# Altium footprint library MotorDriver.PcbLib: 5 footprints
Each footprint in its own frame and in the unit in brackets; x right, y up, seen from the top. Pads: shape width x height; smd on the part's side, far side on the other; paste and mask are expansions set on the pad; w line width, h text height; cw(c..) or ccw(c..) is an arc to the next point about the centre after c.
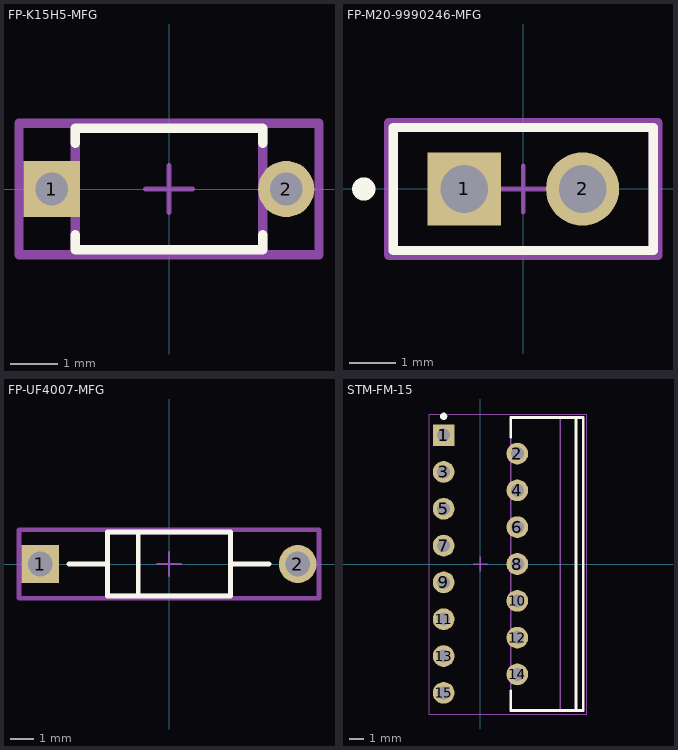
[diagram p0: the footprints below, top view; thin cyan lines are the x and y axes]

## FP-22-29-2031-MFG [mm]

## FP-K15H5-MFG [mm]
pads (2):
  rect 1.2x1.2 hole 0.7 paste-2539.97 mask+0: 1(-2.5,0)
  round 1.2 hole 0.7 paste-2539.97 mask+0: 2(2.5,0)
Top Overlay:
  lines w0.2: -2,-0.975 -2,-1.3 2,-1.3 2,-0.975 ; -2,0.975 -2,1.3 2,1.3 2,0.975
Top Assembly:
  lines w0.2: -3.2,-1.4 -3.2,1.4 3.2,1.4 3.2,-1.4 -3.2,-1.4
  text ".Designator" at 0,0.188 h1
Top 3D Body:
  lines w0.2: -2,-1.3 -2,1.3 2,1.3 2,-1.3 -2,-1.3
Top Courtyard:
  lines w0.2: -3.2,-1.4 -3.2,1.4 3.2,1.4 3.2,-1.4 -3.2,-1.4
Top Component Center:
  lines w0.1: -0.5,0 0.5,0 ; 0,-0.5 0,0.5
3D body "Cap_Vishay_K104K15X7RF53H5_eec.STEP": height 0.25, standoff 0, extent -3.2,-1.4 3.2,1.4

## FP-M20-9990246-MFG [mm]
pads (2):
  rect 1.57x1.57 hole 1.02 paste-2539.97 mask+0: 1(-1.27,0)
  round 1.57 hole 1.02 paste-2539.97 mask+0: 2(1.27,0)
Top Overlay:
  circle w0.25: c-3.425,0 r0.125
  lines w0.2: -2.79,-1.32 2.79,-1.32 2.79,1.32 -2.79,1.32 -2.79,-1.32
Top Assembly:
  lines w0.2: -2.89,-1.42 2.89,-1.42 2.89,1.42 -2.89,1.42 -2.89,-1.42
  text ".Designator" at 0,0.188 h1
Top 3D Body:
  lines w0.2: -2.79,-1.32 2.79,-1.32 2.79,1.32 -2.79,1.32 -2.79,-1.32
Top Courtyard:
  lines w0.2: -2.89,-1.42 2.89,-1.42 2.89,1.42 -2.89,1.42 -2.89,-1.42
Top Component Center:
  lines w0.1: -0.5,0 0.5,0 ; 0,-0.5 0,0.5
3D body "Conn_Harwin_M20-9990246_eec.STEP": height 0.25, standoff 0, extent -2.89,-1.42 2.89,1.42

## FP-UF4007-MFG [mm]
pads (2):
  rect 1.6x1.6 hole 1.05 paste-2539.97 mask+0: 1(-5.438,0)
  round 1.6 hole 1.05 paste-2539.97 mask+0: 2(5.438,0)
Top Overlay:
  lines w0.2: -4.238,0 -2.6,0 ; -1.3,-1.28 -1.3,1.28 ; 2.6,0 4.238,0 ; -2.6,-1.35 2.6,-1.35 2.6,1.35 -2.6,1.35 -2.6,-1.35
Top Assembly:
  lines w0.2: -6.338,-1.45 6.338,-1.45 6.338,1.45 -6.338,1.45 -6.338,-1.45
  text ".Designator" at 0,0.188 h1
Top 3D Body:
  lines w0.2: -2.6,-1.35 2.6,-1.35 2.6,1.35 -2.6,1.35 -2.6,-1.35
Top Courtyard:
  lines w0.2: -6.338,-1.45 6.338,-1.45 6.338,1.45 -6.338,1.45 -6.338,-1.45
Top Component Center:
  lines w0.1: -0.5,0 0.5,0 ; 0,-0.5 0,0.5
3D body "Diode_Vishay_UF4007-E3-54_eec.STEP": height 0.25, standoff 0, extent -6.338,-1.45 6.338,1.45

## STM-FM-15 [mm] "FM, 15-Leads, Body 20.2x5mm, Pitch 1.27mm"
height 21
pads (15):
  rect 1.5x1.5 hole 0.9: 1(-2.54,8.89)
  round 1.5 hole 0.9: 2(2.54,7.62) 3(-2.54,6.35) 4(2.54,5.08) 5(-2.54,3.81) 6(2.54,2.54) 7(-2.54,1.27) 8(2.54,0) 9(-2.54,-1.27) 10(2.54,-2.54) 11(-2.54,-3.81) 12(2.54,-5.08) 13(-2.54,-6.35) 14(2.54,-7.62) 15(-2.54,-8.89)
Top Overlay:
  circle w0.25: c-2.54,10.19 r0.125
  lines w0.2: 2.09,-8.77 2.09,-10.1 7.09,-10.1 7.09,10.1 2.09,10.1 2.09,8.77 ; 6.59,-10.1 6.59,10.1
Top 3D Body:
  lines w0.1: 5.49,-10.1 5.49,10.1 ; 2.09,-10.1 2.09,10.1 7.09,10.1 7.09,-10.1 2.09,-10.1
Top Courtyard:
  lines w0.05: -3.54,-10.35 -3.54,10.35 7.34,10.35 7.34,-10.35 -3.54,-10.35
  lines w0.1: -0.5,0 0.5,0 ; 0,-0.5 0,0.5
3D body: height 1.14, standoff 0, extent -2.8,8.39 -2.28,9.39
3D body: height 1.66, standoff 1.14, extent -2.8,8.39 4.85,9.39
3D body: height 2.79, standoff 1.66, extent 4.33,8.39 4.85,9.39
3D body: height 0, standoff -1.6, extent -2.8,8.535 -2.28,9.245
3D body: height 1.14, standoff 0, extent 2.28,7.12 2.8,8.12
3D body: height 1.66, standoff 1.14, extent 2.28,7.12 4.85,8.12
3D body: height 2.79, standoff 1.66, extent 4.33,7.12 4.85,8.12
3D body: height 0, standoff -1.6, extent 2.28,7.265 2.8,7.975
3D body: height 1.14, standoff 0, extent -2.8,5.85 -2.28,6.85
3D body: height 1.66, standoff 1.14, extent -2.8,5.85 4.85,6.85
3D body: height 2.79, standoff 1.66, extent 4.33,5.85 4.85,6.85
3D body: height 0, standoff -1.6, extent -2.8,5.995 -2.28,6.705
3D body: height 1.14, standoff 0, extent 2.28,4.58 2.8,5.58
3D body: height 1.66, standoff 1.14, extent 2.28,4.58 4.85,5.58
3D body: height 2.79, standoff 1.66, extent 4.33,4.58 4.85,5.58
3D body: height 0, standoff -1.6, extent 2.28,4.725 2.8,5.435
3D body: height 1.14, standoff 0, extent -2.8,3.31 -2.28,4.31
3D body: height 1.66, standoff 1.14, extent -2.8,3.31 4.85,4.31
3D body: height 2.79, standoff 1.66, extent 4.33,3.31 4.85,4.31
3D body: height 0, standoff -1.6, extent -2.8,3.455 -2.28,4.165
3D body: height 1.14, standoff 0, extent 2.28,2.04 2.8,3.04
3D body: height 1.66, standoff 1.14, extent 2.28,2.04 4.85,3.04
3D body: height 2.79, standoff 1.66, extent 4.33,2.04 4.85,3.04
3D body: height 0, standoff -1.6, extent 2.28,2.185 2.8,2.895
3D body: height 1.14, standoff 0, extent -2.8,0.77 -2.28,1.77
3D body: height 1.66, standoff 1.14, extent -2.8,0.77 4.85,1.77
3D body: height 2.79, standoff 1.66, extent 4.33,0.77 4.85,1.77
3D body: height 0, standoff -1.6, extent -2.8,0.915 -2.28,1.625
3D body: height 1.14, standoff 0, extent 2.28,-0.5 2.8,0.5
3D body: height 1.66, standoff 1.14, extent 2.28,-0.5 4.85,0.5
3D body: height 2.79, standoff 1.66, extent 4.33,-0.5 4.85,0.5
3D body: height 0, standoff -1.6, extent 2.28,-0.355 2.8,0.355
3D body: height 1.14, standoff 0, extent -2.8,-1.77 -2.28,-0.77
3D body: height 1.66, standoff 1.14, extent -2.8,-1.77 4.85,-0.77
3D body: height 2.79, standoff 1.66, extent 4.33,-1.77 4.85,-0.77
3D body: height 0, standoff -1.6, extent -2.8,-1.625 -2.28,-0.915
3D body: height 1.14, standoff 0, extent 2.28,-3.04 2.8,-2.04
3D body: height 1.66, standoff 1.14, extent 2.28,-3.04 4.85,-2.04
3D body: height 2.79, standoff 1.66, extent 4.33,-3.04 4.85,-2.04
3D body: height 0, standoff -1.6, extent 2.28,-2.895 2.8,-2.185
3D body: height 1.14, standoff 0, extent -2.8,-4.31 -2.28,-3.31
3D body: height 1.66, standoff 1.14, extent -2.8,-4.31 4.85,-3.31
3D body: height 2.79, standoff 1.66, extent 4.33,-4.31 4.85,-3.31
3D body: height 0, standoff -1.6, extent -2.8,-4.165 -2.28,-3.455
3D body: height 1.14, standoff 0, extent 2.28,-5.58 2.8,-4.58
3D body: height 1.66, standoff 1.14, extent 2.28,-5.58 4.85,-4.58
3D body: height 2.79, standoff 1.66, extent 4.33,-5.58 4.85,-4.58
3D body: height 0, standoff -1.6, extent 2.28,-5.435 2.8,-4.725
3D body: height 1.14, standoff 0, extent -2.8,-6.85 -2.28,-5.85
3D body: height 1.66, standoff 1.14, extent -2.8,-6.85 4.85,-5.85
3D body: height 2.79, standoff 1.66, extent 4.33,-6.85 4.85,-5.85
3D body: height 0, standoff -1.6, extent -2.8,-6.705 -2.28,-5.995
3D body: height 1.14, standoff 0, extent 2.28,-8.12 2.8,-7.12
3D body: height 1.66, standoff 1.14, extent 2.28,-8.12 4.85,-7.12
3D body: height 2.79, standoff 1.66, extent 4.33,-8.12 4.85,-7.12
3D body: height 0, standoff -1.6, extent 2.28,-7.975 2.8,-7.265
3D body: height 1.14, standoff 0, extent -2.8,-9.39 -2.28,-8.39
3D body: height 1.66, standoff 1.14, extent -2.8,-9.39 4.85,-8.39
3D body: height 2.79, standoff 1.66, extent 4.33,-9.39 4.85,-8.39
3D body: height 0, standoff -1.6, extent -2.8,-9.245 -2.28,-8.535
3D body: height 14.1, standoff 2.79, extent 2.09,-10.1 7.09,10.1
3D body: height 16.33, standoff 14.1, extent 5.49,-9.8 7.09,9.8
3D body: height 16.37, standoff 16.33, extent 5.49,0.366 7.09,9.8
3D body: height 16.37, standoff 16.33, extent 5.49,-9.8 7.09,-0.366
3D body: height 20.08, standoff 20.04, extent 5.49,0.366 7.09,9.8
3D body: height 20.08, standoff 20.04, extent 5.49,-9.8 7.09,-0.366
3D body: height 16.47, standoff 16.36, extent 5.49,0.718 7.09,9.8
3D body: height 16.47, standoff 16.36, extent 5.49,-9.8 7.09,-0.718
3D body: height 20.04, standoff 19.93, extent 5.49,0.718 7.09,9.8
3D body: height 20.04, standoff 19.93, extent 5.49,-9.8 7.09,-0.718
3D body: height 16.65, standoff 16.47, extent 5.49,1.042 7.09,9.8
3D body: height 16.65, standoff 16.47, extent 5.49,-9.8 7.09,-1.042
3D body: height 19.94, standoff 19.76, extent 5.49,1.042 7.09,9.8
3D body: height 19.94, standoff 19.76, extent 5.49,-9.8 7.09,-1.042
3D body: height 16.88, standoff 16.64, extent 5.49,1.326 7.09,9.8
3D body: height 16.88, standoff 16.64, extent 5.49,-9.8 7.09,-1.326
3D body: height 19.76, standoff 19.53, extent 5.49,1.326 7.09,9.8
3D body: height 19.76, standoff 19.53, extent 5.49,-9.8 7.09,-1.326
3D body: height 17.16, standoff 16.87, extent 5.49,1.559 7.09,9.8
3D body: height 17.16, standoff 16.87, extent 5.49,-9.8 7.09,-1.559
3D body: height 19.53, standoff 19.24, extent 5.49,1.559 7.09,9.8
3D body: height 19.53, standoff 19.24, extent 5.49,-9.8 7.09,-1.559
3D body: height 17.49, standoff 17.16, extent 5.49,1.732 7.09,9.8
3D body: height 17.49, standoff 17.16, extent 5.49,-9.8 7.09,-1.732
3D body: height 19.25, standoff 18.92, extent 5.49,1.732 7.09,9.8
3D body: height 19.25, standoff 18.92, extent 5.49,-9.8 7.09,-1.732
3D body: height 17.84, standoff 17.48, extent 5.49,1.839 7.09,9.8
3D body: height 17.84, standoff 17.48, extent 5.49,-9.8 7.09,-1.839
3D body: height 18.92, standoff 18.57, extent 5.49,1.839 7.09,9.8
3D body: height 18.92, standoff 18.57, extent 5.49,-9.8 7.09,-1.839
3D body: height 18.2, standoff 17.83, extent 5.49,1.875 7.09,9.8
3D body: height 18.2, standoff 17.83, extent 5.49,-9.8 7.09,-1.875
3D body: height 18.57, standoff 18.2, extent 5.49,1.875 7.09,9.8
3D body: height 18.57, standoff 18.2, extent 5.49,-9.8 7.09,-1.875
3D body: height 21, standoff 20.08, extent 5.49,-9.8 7.09,9.8